# EAGLE library part PIC32MX220F032B-I/SO (library EW_IC_Processors)
None
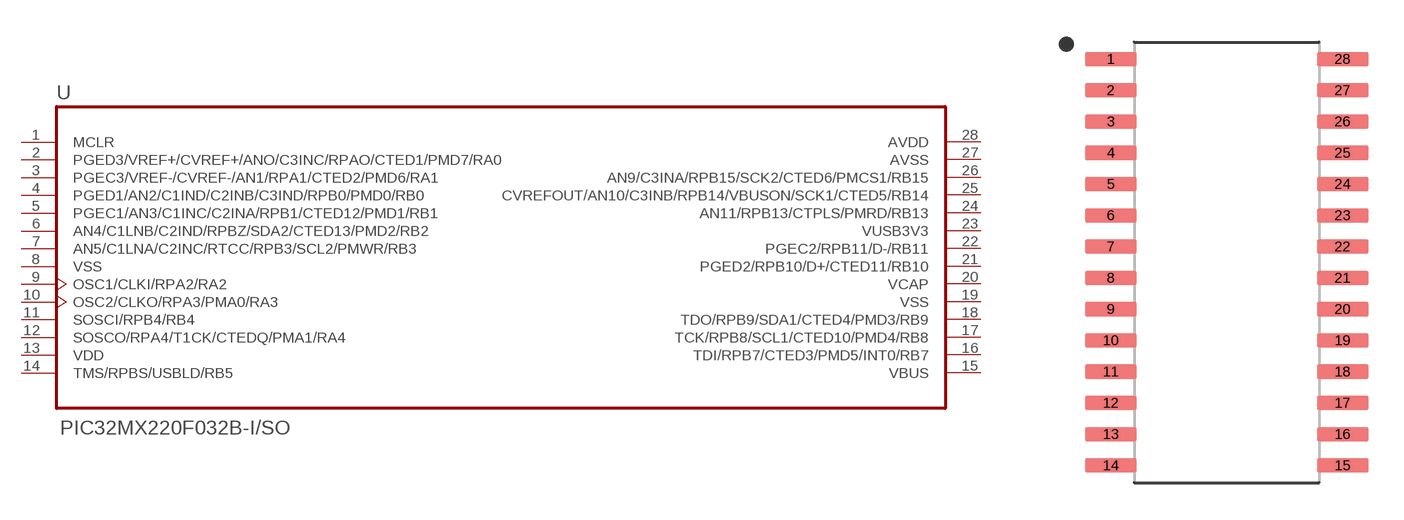
[diagram p3: symbol with the pads of SOIC127P1030X265-28N; footprint SOIC127P1030X265-28N]

Designator prefix U

## PIC32MX220F032B-I/SO (AVAILABILITY: Unavailable; DESCRIPTION: MCU, 32BIT, 32K FLASH, 28SOIC; Controller Family/Series: PIC32; Core Size: 32bit; SVHC: No SVHC _18-Jun-2012_; MF: Microchip; MP: PIC32MX220F032B-I/SO; PACKAGE: SO-28 Microchip; PRICE: None)  [SOIC127P1030X265-28N]
1  MCLR
2  PGED3/VREF+/CVREF+/ANO/C3INC/RPAO/CTED1/PMD7/RA0
3  PGEC3/VREF-/CVREF-/AN1/RPA1/CTED2/PMD6/RA1
4  PGED1/AN2/C1IND/C2INB/C3IND/RPB0/PMD0/RB0
5  PGEC1/AN3/C1INC/C2INA/RPB1/CTED12/PMD1/RB1
6  AN4/C1LNB/C2IND/RPBZ/SDA2/CTED13/PMD2/RB2
7  AN5/C1LNA/C2INC/RTCC/RPB3/SCL2/PMWR/RB3
8  VSS  pwr
9  OSC1/CLKI/RPA2/RA2
10  OSC2/CLKO/RPA3/PMA0/RA3
11  SOSCI/RPB4/RB4
12  SOSCO/RPA4/T1CK/CTEDQ/PMA1/RA4
13  VDD  pwr
14  TMS/RPBS/USBLD/RB5
15  VBUS
16  TDI/RPB7/CTED3/PMD5/INT0/RB7
17  TCK/RPB8/SCL1/CTED10/PMD4/RB8
18  TDO/RPB9/SDA1/CTED4/PMD3/RB9
19  VSS  pwr
20  VCAP
21  PGED2/RPB10/D+/CTED11/RB10
22  PGEC2/RPB11/D-/RB11
23  VUSB3V3
24  AN11/RPB13/CTPLS/PMRD/RB13
25  CVREFOUT/AN10/C3INB/RPB14/VBUSON/SCK1/CTED5/RB14  out
26  AN9/C3INA/RPB15/SCK2/CTED6/PMCS1/RB15
27  AVSS  pwr
28  AVDD  pwr

## Footprint SOIC127P1030X265-28N (pad centres in mm)
smd 2.1 x 0.6: 1 -4.705,8.255; 2 -4.705,6.985; 3 -4.705,5.715; 4 -4.705,4.445; 5 -4.705,3.175; 6 -4.705,1.905; 7 -4.705,0.635; 8 -4.705,-0.635; 9 -4.705,-1.905; 10 -4.705,-3.175; 11 -4.705,-4.445; 12 -4.705,-5.715; 13 -4.705,-6.985; 14 -4.705,-8.255; 15 4.705,-8.255; 16 4.705,-6.985; 17 4.705,-5.715; 18 4.705,-4.445; 19 4.705,-3.175; 20 4.705,-1.905; 21 4.705,-0.635; 22 4.705,0.635; 23 4.705,1.905; 24 4.705,3.175; 25 4.705,4.445; 26 4.705,5.715; 27 4.705,6.985; 28 4.705,8.255